# Altium schematic symbol library LVKON-MotorCtrl_YA.SCHLIB: 188 symbols (part 2 of 2)
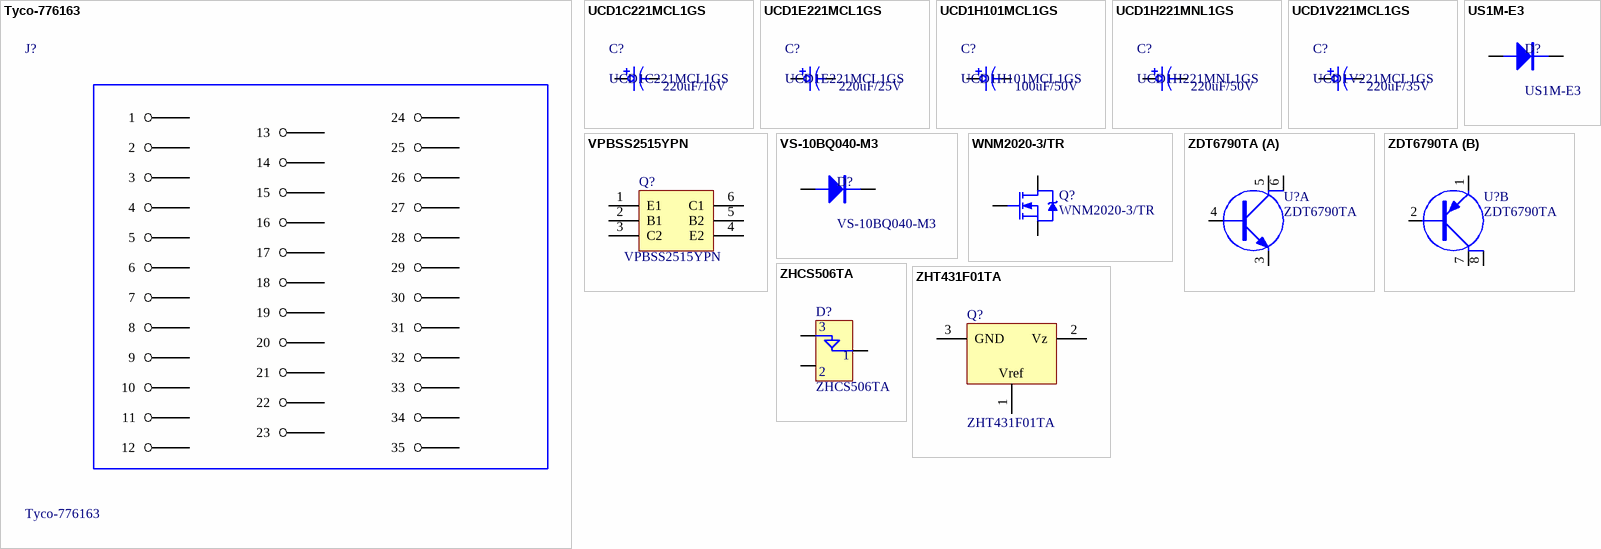
[diagram p8: symbols Tyco-776163 to ZHT431F01TA]

## VS-10BQ040-M3
designator D?
Schottky Barrier Diodes; Brand: VISHAY; junction temperature: -55-150℃; reverse voltage: 40V; forward voltage: 0.38V; IF: 1A
footprint SMB (Molded Capacitor, 2-Leads, Body 5.40x3.60mm, IPC Medium Density)
pins: 1 K, 2 A
2 alternate drawings of the same symbol

## WNM2020-3/TR
designator Q?
N-Channel, 20V, 0.90A, Small Signal MOSFET; Brand: TY Semiconductor; Mark: W28*(A~Z)
footprint SOT23
pins: 1 G, 2 S, 3 D
2 alternate drawings of the same symbol

## ZDT6790TA
designator U?
SM-8 COMPLEMENTARY MEDIUM POWER  HIGH GAIN TRANSISTORS; Brand: Diodes; Ic: 2A/-2A; Vcbo: 45V/-50V; Vceo: 45V-40V; Grade: A
footprint SM-8
part A pins: 3, 4, 5, 6
part B pins: 1, 2, 7, 8

## ZHCS506TA
designator D?
SURFACE MOUNT SCHOTTKY BARRIER DIODE; Brand: DIODES; IRRM: 1000mA; IF: 500mA; Operation Temperature: -40-+125℃; Continuous Reverse Voltage: 60V; Reverse Recovery Time: 10ns; Reverse Breakdown Voltage: 80V
footprint SOT23(1-32)
pins: 1, 2, 3

## ZHT431F01TA
designator Q?
Adjustable precision Zener shunt regulator; Part mark: 43C; Brand: ZETEX; Vref: 2.50V
footprint SOT23
pins: 1 Vref, 2 Vz, 3 GND